# Altium footprint library AD4PS1.PcbLib: 1 footprints
Each footprint in its own frame and in the unit in brackets; x right, y up, seen from the top. Pads: shape width x height; smd on the part's side, far side on the other; paste and mask are expansions set on the pad; w line width, h text height; cw(c..) or ccw(c..) is an arc to the next point about the centre after c.
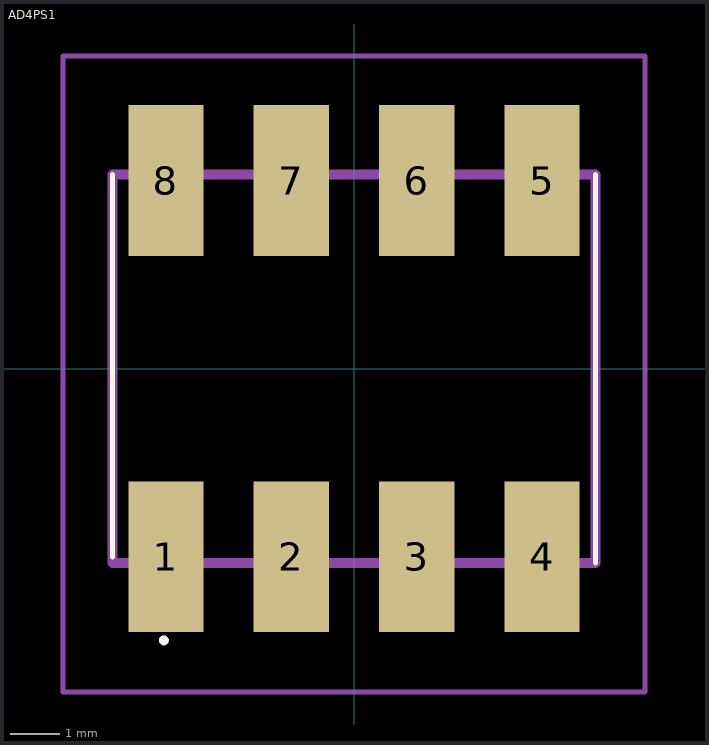
[diagram p0: the footprint, top view; thin cyan lines are the x and y axes]

## AD4PS1 [mm]
pads (8):
  rect 1.52x3.05 smd: 1(-3.81,-3.81) 2(-1.27,-3.81) 3(1.27,-3.81) 4(3.81,-3.81) 5(3.81,3.81) 6(1.27,3.81) 7(-1.27,3.81) 8(-3.81,3.81)
Top Overlay:
  lines w0.1: -4.89,-3.81 -4.89,3.935 ; 4.89,-3.935 4.89,3.935 ; -3.9,-5.5 -3.9,-5.5 ; -3.9,-5.5 cw(c-3.85,-5.5) -3.8,-5.5 ; -3.9,-5.5 ccw(c-3.85,-5.5) -3.8,-5.5 ; -3.8,-5.5 -3.8,-5.5
Mechanical 15:
  lines w0.2: -4.89,-3.935 4.89,-3.935 4.89,3.935 -4.89,3.935 -4.89,-3.935
Mechanical 20:
  lines w0.1: -5.89,-6.55 5.89,-6.55 5.89,6.335 -5.89,6.335 -5.89,-6.55